# Altium schematic symbol library Controller-RK3562.SCHLIB: 538 symbols (part 4 of 5)
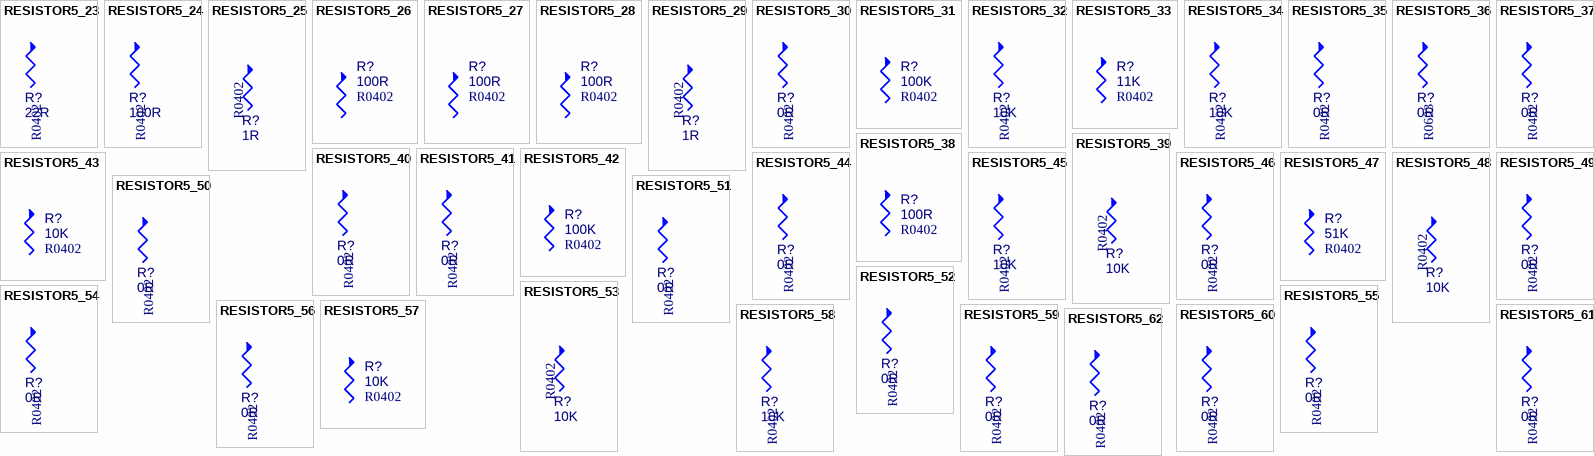
[diagram p23: symbols RESISTOR5_23 to RESISTOR5_62]

## RESISTOR5_42
designator R?, comment 100K  PCB Footprint: R0402
通用厚膜电阻,100K,+/-5%,R0402,1/16W.; Part Reference: R2220; Manufacturer PN: RC0402JR-07100KL; Manufacturer: YAGEO; Tolerance: 5%; Wattage: 1/16W; Priority: A; RK PN: 901001447; Value: 100K; Created by: YTL; Part Type: 通用厚膜电阻
footprint R0402
pins: 1, 2

## RESISTOR5_43
designator R?, comment 10K  PCB Footprint: R0402
通用厚膜电阻,10K,+/-5%,R0402,1/16W.; Part Reference: R2221; Manufacturer: YAGEO; Manufacturer PN: RC0402JR-0710KL; Tolerance: 5%; RK PN: 901001449; Priority: A; Wattage: 1/16W; Value: 10K; Part Type: 通用厚膜电阻; Created by: YTL
footprint R0402
pins: 1, 2

## RESISTOR5_44
designator R?, comment 0R  PCB Footprint: R0402
通用厚膜电阻,0R,+/-5%,R0402,1/16W.; Part Reference: R2222; Manufacturer: YAGEO; Manufacturer PN: RC0402JR-070RL; Tolerance: 5%; RK PN: 901001446; Priority: A; Wattage: 1/16W; Value: 0R; Part Type: 通用厚膜电阻; Created by: YTL
footprint R0402
pins: 1, 2

## RESISTOR5_45
designator R?, comment 10K  PCB Footprint: R0402
通用厚膜电阻,10K,+/-5%,R0402,1/16W.; Part Reference: R2224; Manufacturer: YAGEO; Manufacturer PN: RC0402JR-0710KL; Tolerance: 5%; RK PN: 901001449; Priority: A; Wattage: 1/16W; Value: 10K; Part Type: 通用厚膜电阻; Created by: YTL
footprint R0402
pins: 1, 2

## RESISTOR5_46
designator R?, comment 0R  PCB Footprint: R0402
通用厚膜电阻,0R,+/-5%,R0402,1/16W.; Part Reference: R2225; Manufacturer: YAGEO; Manufacturer PN: RC0402JR-070RL; Tolerance: 5%; RK PN: 901001446; Priority: A; Wattage: 1/16W; Value: 0R; Part Type: 通用厚膜电阻; Created by: YTL
footprint R0402
pins: 1, 2

## RESISTOR5_47
designator R?, comment 51K  PCB Footprint: R0402
通用厚膜电阻,51K,+/-5%,R0402,1/16W.; Part Reference: R2226; Manufacturer: YAGEO; Manufacturer PN: RC0402JR-0751KL; Tolerance: 5%; RK PN: 901001568; Priority: A; Wattage: 1/16W; Value: 51K; Part Type: 通用厚膜电阻; Created by: YTL
footprint R0402
pins: 1, 2

## RESISTOR5_48
designator R?, comment 10K  PCB Footprint: R0402
通用厚膜电阻,10K,+/-5%,R0402,1/16W.; Part Reference: R2228; Manufacturer PN: RC0402JR-0710KL; Manufacturer: YAGEO; Tolerance: 5%; Wattage: 1/16W; Priority: A; RK PN: 901001449; Value: 10K; Created by: YTL; Part Type: 通用厚膜电阻
footprint R0402
pins: 1, 2

## RESISTOR5_49
designator R?, comment 0R  PCB Footprint: R0402
通用厚膜电阻,0R,+/-5%,R0402,1/16W.; Part Reference: R2229; Manufacturer: YAGEO; Manufacturer PN: RC0402JR-070RL; Tolerance: 5%; RK PN: 901001446; Priority: A; Wattage: 1/16W; Value: 0R; Part Type: 通用厚膜电阻; Created by: YTL
footprint R0402
pins: 1, 2

## RESISTOR5_50
designator R?, comment 0R  PCB Footprint: R0402
通用厚膜电阻,0R,+/-5%,R0402,1/16W.; Part Reference: R2231; Manufacturer: YAGEO; Manufacturer PN: RC0402JR-070RL; Tolerance: 5%; RK PN: 901001446; Priority: A; Wattage: 1/16W; Value: 0R; Part Type: 通用厚膜电阻; Created by: YTL
footprint R0402
pins: 1, 2

## RESISTOR5_51
designator R?, comment 0R  PCB Footprint: R0402
通用厚膜电阻,0R,+/-5%,R0402,1/16W.; Part Reference: R2233; Manufacturer: YAGEO; Manufacturer PN: RC0402JR-070RL; Tolerance: 5%; RK PN: 901001446; Priority: A; Wattage: 1/16W; Value: 0R; Part Type: 通用厚膜电阻; Created by: YTL
footprint R0402
pins: 1, 2

## RESISTOR5_52
designator R?, comment 0R  PCB Footprint: R0402
通用厚膜电阻,0R,+/-5%,R0402,1/16W.; Part Reference: R2234; Manufacturer: YAGEO; Manufacturer PN: RC0402JR-070RL; Tolerance: 5%; RK PN: 901001446; Priority: A; Wattage: 1/16W; Value: 0R; Part Type: 通用厚膜电阻; Created by: YTL
footprint R0402
pins: 1, 2

## RESISTOR5_53
designator R?, comment 10K  PCB Footprint: R0402
通用厚膜电阻,10K,+/-5%,R0402,1/16W.; Part Reference: R2235; Manufacturer PN: RC0402JR-0710KL; Manufacturer: YAGEO; Tolerance: 5%; Wattage: 1/16W; Priority: A; RK PN: 901001449; Value: 10K; Created by: YTL; Part Type: 通用厚膜电阻
footprint R0402
pins: 1, 2

## RESISTOR5_54
designator R?, comment 0R  PCB Footprint: R0402
通用厚膜电阻,0R,+/-5%,R0402,1/16W.; Part Reference: R2236; Manufacturer: YAGEO; Manufacturer PN: RC0402JR-070RL; Tolerance: 5%; RK PN: 901001446; Priority: A; Wattage: 1/16W; Value: 0R; Part Type: 通用厚膜电阻; Created by: YTL
footprint R0402
pins: 1, 2

## RESISTOR5_55
designator R?, comment 0R  PCB Footprint: R0402
通用厚膜电阻,0R,+/-5%,R0402,1/16W.; Part Reference: R2250; Manufacturer: YAGEO; Manufacturer PN: RC0402JR-070RL; Tolerance: 5%; RK PN: 901001446; Priority: A; Wattage: 1/16W; Value: 0R; Part Type: 通用厚膜电阻; Created by: YTL
footprint R0402
pins: 1, 2

## RESISTOR5_56
designator R?, comment 0R  PCB Footprint: R0402
通用厚膜电阻,0R,+/-5%,R0402,1/16W.; Part Reference: R2237; Manufacturer: YAGEO; Manufacturer PN: RC0402JR-070RL; Tolerance: 5%; RK PN: 901001446; Priority: A; Wattage: 1/16W; Value: 0R; Part Type: 通用厚膜电阻; Created by: YTL
footprint R0402
pins: 1, 2

## RESISTOR5_57
designator R?, comment 10K  PCB Footprint: R0402
通用厚膜电阻,10K,+/-5%,R0402,1/16W.; Part Reference: R2238; Manufacturer: YAGEO; Manufacturer PN: RC0402JR-0710KL; Tolerance: 5%; RK PN: 901001449; Priority: A; Wattage: 1/16W; Value: 10K; Part Type: 通用厚膜电阻; Created by: YTL
footprint R0402
pins: 1, 2

## RESISTOR5_58
designator R?, comment 10K  PCB Footprint: R0402
通用厚膜电阻,10K,+/-5%,R0402,1/16W.; Part Reference: R2239; Manufacturer: YAGEO; Manufacturer PN: RC0402JR-0710KL; Tolerance: 5%; RK PN: 901001449; Priority: A; Wattage: 1/16W; Value: 10K; Part Type: 通用厚膜电阻; Created by: YTL
footprint R0402
pins: 1, 2

## RESISTOR5_59
designator R?, comment 0R  PCB Footprint: R0402
通用厚膜电阻,0R,+/-5%,R0402,1/16W.; Part Reference: R2240; Manufacturer: YAGEO; Manufacturer PN: RC0402JR-070RL; Tolerance: 5%; RK PN: 901001446; Priority: A; Wattage: 1/16W; Value: 0R; Part Type: 通用厚膜电阻; Created by: YTL
footprint R0402
pins: 1, 2

## RESISTOR5_60
designator R?, comment 0R  PCB Footprint: R0402
通用厚膜电阻,0R,+/-5%,R0402,1/16W.; Part Reference: R2242; Manufacturer: YAGEO; Manufacturer PN: RC0402JR-070RL; Tolerance: 5%; RK PN: 901001446; Priority: A; Wattage: 1/16W; Value: 0R; Part Type: 通用厚膜电阻; Created by: YTL
footprint R0402
pins: 1, 2

## RESISTOR5_61
designator R?, comment 0R  PCB Footprint: R0402
通用厚膜电阻,0R,+/-5%,R0402,1/16W.; Part Reference: R2243; Manufacturer: YAGEO; Manufacturer PN: RC0402JR-070RL; Tolerance: 5%; RK PN: 901001446; Priority: A; Wattage: 1/16W; Value: 0R; Part Type: 通用厚膜电阻; Created by: YTL
footprint R0402
pins: 1, 2

## RESISTOR5_62
designator R?, comment 0R  PCB Footprint: R0402
通用厚膜电阻,0R,+/-5%,R0402,1/16W.; Part Reference: R2244; Manufacturer: YAGEO; Manufacturer PN: RC0402JR-070RL; Tolerance: 5%; RK PN: 901001446; Priority: A; Wattage: 1/16W; Value: 0R; Part Type: 通用厚膜电阻; Created by: YTL
footprint R0402
pins: 1, 2

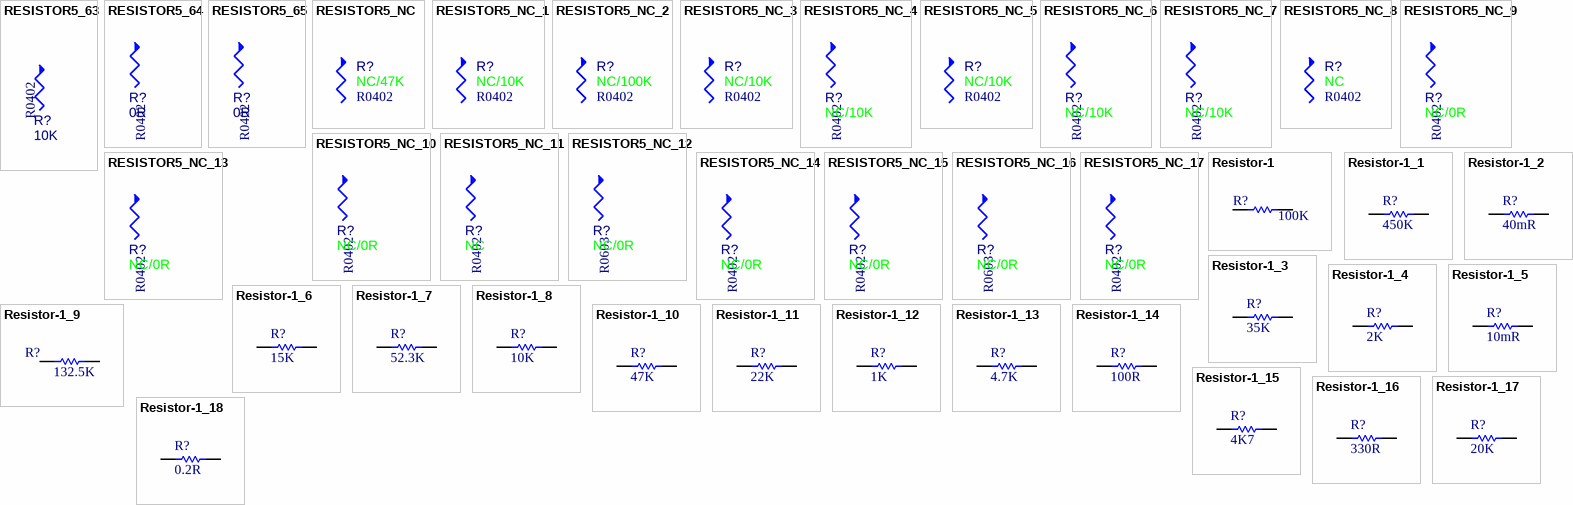
[diagram p13: symbols RESISTOR5_63 to Resistor-1_18]

## RESISTOR5_63
designator R?, comment 10K  PCB Footprint: R0402
通用厚膜电阻,10K,+/-5%,R0402,1/16W.; Part Reference: R2245; Manufacturer PN: RC0402JR-0710KL; Manufacturer: YAGEO; Tolerance: 5%; Wattage: 1/16W; Priority: A; RK PN: 901001449; Value: 10K; Created by: YTL; Part Type: 通用厚膜电阻
footprint R0402
pins: 1, 2

## RESISTOR5_64
designator R?, comment 0R  PCB Footprint: R0402
通用厚膜电阻,0R,+/-5%,R0402,1/16W.; Part Reference: R2246; Manufacturer: YAGEO; Manufacturer PN: RC0402JR-070RL; Tolerance: 5%; RK PN: 901001446; Priority: A; Wattage: 1/16W; Value: 0R; Part Type: 通用厚膜电阻; Created by: YTL
footprint R0402
pins: 1, 2

## RESISTOR5_65
designator R?, comment 0R  PCB Footprint: R0402
通用厚膜电阻,0R,+/-5%,R0402,1/16W.; Part Reference: R2247; Manufacturer: YAGEO; Manufacturer PN: RC0402JR-070RL; Tolerance: 5%; RK PN: 901001446; Priority: A; Wattage: 1/16W; Value: 0R; Part Type: 通用厚膜电阻; Created by: YTL
footprint R0402
pins: 1, 2

## RESISTOR5_NC
designator R?, comment NC/47K  PCB Footprint: R0402
通用厚膜电阻,47K,+/-5%,R0402,1/16W.; Part Reference: R4004; Manufacturer: YAGEO; Manufacturer PN: RC0402JR-0747KL; Tolerance: 5%; RK PN: 901001559-1; Priority: A; Wattage: 1/16W; Optional: X; Value: NC/47K; Part Type: 通用厚膜电阻; Created by: YTL; ClassName: RK
footprint R0402
pins: 1, 2

## RESISTOR5_NC_1
designator R?, comment NC/10K  PCB Footprint: R0402
通用厚膜电阻,10K,+/-5%,R0402,1/16W.; Part Reference: R4500; Manufacturer: YAGEO; Manufacturer PN: RC0402JR-0710KL; Tolerance: 5%; RK PN: 901001449-1; Priority: A; Wattage: 1/16W; Optional: X; Value: NC/10K; Part Type: 通用厚膜电阻; Created by: YTL
footprint R0402
pins: 1, 2

## RESISTOR5_NC_2
designator R?, comment NC/100K  PCB Footprint: R0402
通用厚膜电阻,100K,+/-5%,R0402,1/16W.; Part Reference: R6101; Manufacturer: YAGEO; Manufacturer PN: RC0402JR-07100KL; Tolerance: 5%; RK PN: 901001447-1; Priority: A; Wattage: 1/16W; Optional: X; Value: NC/100K; Part Type: 通用厚膜电阻; Created by: YTL
footprint R0402
pins: 1, 2

## RESISTOR5_NC_3
designator R?, comment NC/10K  PCB Footprint: R0402
通用厚膜电阻,10K,+/-5%,R0402,1/16W.; Part Reference: R6102; Manufacturer PN: RC0402JR-0710KL; Manufacturer: YAGEO; Tolerance: 5%; Optional: X; Wattage: 1/16W; Priority: A; RK PN: 901001449-1; Value: NC/10K; Created by: YTL; Part Type: 通用厚膜电阻
footprint R0402
pins: 1, 2

## RESISTOR5_NC_4
designator R?, comment NC/10K  PCB Footprint: R0402
通用厚膜电阻,10K,+/-5%,R0402,1/16W.; Part Reference: R6104; Manufacturer: YAGEO; Manufacturer PN: RC0402JR-0710KL; Tolerance: 5%; RK PN: 901001449-1; Priority: A; Wattage: 1/16W; Optional: X; Value: NC/10K; Part Type: 通用厚膜电阻; Created by: YTL
footprint R0402
pins: 1, 2

## RESISTOR5_NC_5
designator R?, comment NC/10K  PCB Footprint: R0402
通用厚膜电阻,10K,+/-5%,R0402,1/16W.; Part Reference: R6105; Manufacturer PN: RC0402JR-0710KL; Manufacturer: YAGEO; Tolerance: 5%; Optional: X; Wattage: 1/16W; Priority: A; RK PN: 901001449-1; Value: NC/10K; Created by: YTL; Part Type: 通用厚膜电阻
footprint R0402
pins: 1, 2

## RESISTOR5_NC_6
designator R?, comment NC/10K  PCB Footprint: R0402
通用厚膜电阻,10K,+/-5%,R0402,1/16W.; Part Reference: R6106; Manufacturer: YAGEO; Manufacturer PN: RC0402JR-0710KL; Tolerance: 5%; RK PN: 901001449-1; Priority: A; Wattage: 1/16W; Optional: X; Value: NC/10K; Part Type: 通用厚膜电阻; Created by: YTL
footprint R0402
pins: 1, 2

## RESISTOR5_NC_7
designator R?, comment NC/10K  PCB Footprint: R0402
通用厚膜电阻,10K,+/-5%,R0402,1/16W.; Part Reference: R6111; Manufacturer: YAGEO; Manufacturer PN: RC0402JR-0710KL; Tolerance: 5%; RK PN: 901001449-1; Priority: A; Wattage: 1/16W; Optional: X; Value: NC/10K; Part Type: 通用厚膜电阻; Created by: YTL
footprint R0402
pins: 1, 2

## RESISTOR5_NC_8
designator R?, comment NC  PCB Footprint: R0402
NC电阻，无阻值.; Part Reference: R6116; Optional: X; Priority: A; RK PN: 901006427-1; Value: NC; Created by: JJJ; Part Type: NC电阻
footprint R0402
pins: 1, 2

## RESISTOR5_NC_9
designator R?, comment NC/0R  PCB Footprint: R0402
通用厚膜电阻,0R,+/-5%,R0402,1/16W.; Part Reference: R6115; Manufacturer PN: RC0402JR-070RL; Manufacturer: YAGEO; Tolerance: 5%; Optional: X; Wattage: 1/16W; Priority: A; RK PN: 901001446-1; Value: NC/0R; Created by: YTL; Part Type: 通用厚膜电阻
footprint R0402
pins: 1, 2

## RESISTOR5_NC_10
designator R?, comment NC/0R  PCB Footprint: R0402
通用厚膜电阻,0R,+/-5%,R0402,1/16W.; Part Reference: R6120; Manufacturer: YAGEO; Manufacturer PN: RC0402JR-070RL; Tolerance: 5%; RK PN: 901001446-1; Priority: A; Wattage: 1/16W; Optional: X; Value: NC/0R; Part Type: 通用厚膜电阻; Created by: YTL
footprint R0402
pins: 1, 2

## RESISTOR5_NC_11
designator R?, comment NC  PCB Footprint: R0402
NC电阻，无阻值.; Part Reference: R2108; RK PN: 901006427-1; Priority: A; Optional: X; Value: NC; Part Type: NC电阻; Created by: JJJ
footprint R0402
pins: 1, 2

## RESISTOR5_NC_12
designator R?, comment NC/0R  PCB Footprint: R0603
通用厚膜电阻,0R,+/-5%,R0603,1/10W.; Part Reference: R2200; Manufacturer: YAGEO; Manufacturer PN: RC0603JR-070RL; Tolerance: 5%; RK PN: 901002435-1; Priority: A; Wattage: 1/10W; Optional: X; Value: NC/0R; Part Type: 通用厚膜电阻; Created by: YTL
footprint R0402
footprint R0603
pins: 1, 2

## RESISTOR5_NC_13
designator R?, comment NC/0R  PCB Footprint: R0402
通用厚膜电阻,0R,+/-5%,R0402,1/16W.; Part Reference: R2202; Manufacturer PN: RC0402JR-070RL; Manufacturer: YAGEO; Tolerance: 5%; Optional: X; Wattage: 1/16W; Priority: A; RK PN: 901001446-1; Value: NC/0R; Created by: YTL; Part Type: 通用厚膜电阻
footprint R0402
pins: 1, 2

## RESISTOR5_NC_14
designator R?, comment NC/0R  PCB Footprint: R0402
通用厚膜电阻,0R,+/-5%,R0402,1/16W.; Part Reference: R2203; Manufacturer PN: RC0402JR-070RL; Manufacturer: YAGEO; Tolerance: 5%; Optional: X; Wattage: 1/16W; Priority: A; RK PN: 901001446-1; Value: NC/0R; Created by: YTL; Part Type: 通用厚膜电阻
footprint R0402
pins: 1, 2

## RESISTOR5_NC_15
designator R?, comment NC/0R  PCB Footprint: R0402
通用厚膜电阻,0R,+/-5%,R0402,1/16W.; Part Reference: R2218; Manufacturer PN: RC0402JR-070RL; Manufacturer: YAGEO; Tolerance: 5%; Optional: X; Wattage: 1/16W; Priority: A; RK PN: 901001446-1; Value: NC/0R; Created by: YTL; Part Type: 通用厚膜电阻
footprint R0402
pins: 1, 2

## RESISTOR5_NC_16
designator R?, comment NC/0R  PCB Footprint: R0603
通用厚膜电阻,0R,+/-5%,R0603,1/10W.; Part Reference: R2219; Manufacturer: YAGEO; Manufacturer PN: RC0603JR-070RL; Tolerance: 5%; RK PN: 901002435-1; Priority: A; Wattage: 1/10W; Optional: X; Value: NC/0R; Part Type: 通用厚膜电阻; Created by: YTL
footprint R0402
footprint R0603
pins: 1, 2

## RESISTOR5_NC_17
designator R?, comment NC/0R  PCB Footprint: R0402
通用厚膜电阻,0R,+/-5%,R0402,1/16W.; Part Reference: R2223; Manufacturer PN: RC0402JR-070RL; Manufacturer: YAGEO; Tolerance: 5%; Optional: X; Wattage: 1/16W; Priority: A; RK PN: 901001446-1; Value: NC/0R; Created by: YTL; Part Type: 通用厚膜电阻
footprint R0402
pins: 1, 2

## Resistor-1
designator R?, comment 100K
ManufacturingPartNumber: *; Manufacturer: *; SupplierPartNumber: *; Supplier: *; VoltageRate: *
footprint RES-0402
footprint RES-0603
footprint RES-0805-S
pins: 1, 2

## Resistor-1_1
designator R?, comment 450K
ManufacturingPartNumber: *; Manufacturer: *; SupplierPartNumber: *; Supplier: *; VoltageRate: *
footprint RES-0402
footprint RES-0603
footprint RES-0805-S
pins: 1, 2

## Resistor-1_2
designator R?, comment 40mR
ManufacturingPartNumber: *; Manufacturer: *; SupplierPartNumber: *; Supplier: *; VoltageRate: *
footprint R1210
footprint RES-0603
footprint RES-0805-S
pins: 1, 2

## Resistor-1_3
designator R?, comment 35K
ManufacturingPartNumber: *; Manufacturer: *; SupplierPartNumber: *; Supplier: *; VoltageRate: *
footprint RES-0402
footprint RES-0603
footprint RES-0805-S
pins: 1, 2

## Resistor-1_4
designator R?, comment 2K
ManufacturingPartNumber: *; Manufacturer: *; SupplierPartNumber: *; Supplier: *; VoltageRate: *
footprint RES-0402
footprint RES-0603
footprint RES-0805-S
pins: 1, 2

## Resistor-1_5
designator R?, comment 10mR
ManufacturingPartNumber: *; Manufacturer: *; SupplierPartNumber: *; Supplier: *; VoltageRate: *
footprint RES-1206
footprint RES-0603
footprint RES-0805-S
pins: 1, 2

## Resistor-1_6
designator R?, comment 15K
ManufacturingPartNumber: *; Manufacturer: *; SupplierPartNumber: *; Supplier: *; VoltageRate: *
footprint RES-0402
footprint RES-0603
footprint RES-0805-S
pins: 1, 2

## Resistor-1_7
designator R?, comment 52.3K
ManufacturingPartNumber: *; Manufacturer: *; SupplierPartNumber: *; Supplier: *; VoltageRate: *
footprint RES-0402
footprint RES-0603
footprint RES-0805-S
pins: 1, 2

## Resistor-1_8
designator R?, comment 10K
ManufacturingPartNumber: *; Manufacturer: *; SupplierPartNumber: *; Supplier: *; VoltageRate: *
footprint RES-0402
footprint RES-0603
footprint RES-0805-S
pins: 1, 2

## Resistor-1_9
designator R?, comment 132.5K
ManufacturingPartNumber: *; Manufacturer: *; SupplierPartNumber: *; Supplier: *; VoltageRate: *
footprint RES-0402
footprint RES-0603
footprint RES-0805-S
pins: 1, 2

## Resistor-1_10
designator R?, comment 47K
ManufacturingPartNumber: *; Manufacturer: *; SupplierPartNumber: *; Supplier: *; VoltageRate: *
footprint RES-0402
footprint RES-0603
footprint RES-0805-S
pins: 1, 2

## Resistor-1_11
designator R?, comment 22K
ManufacturingPartNumber: *; Manufacturer: *; SupplierPartNumber: *; Supplier: *; VoltageRate: *
footprint RES-0402
footprint RES-0603
footprint RES-0805-S
pins: 1, 2

## Resistor-1_12
designator R?, comment 1K
ManufacturingPartNumber: *; Manufacturer: *; SupplierPartNumber: *; Supplier: *; VoltageRate: *
footprint RES-0402
footprint RES-0603
footprint RES-0805-S
pins: 1, 2

## Resistor-1_13
designator R?, comment 4.7K
ManufacturingPartNumber: *; Manufacturer: *; SupplierPartNumber: *; Supplier: *; VoltageRate: *
footprint RES-0402
footprint RES-0603
footprint RES-0805-S
pins: 1, 2

## Resistor-1_14
designator R?, comment 100R
ManufacturingPartNumber: *; Manufacturer: *; SupplierPartNumber: *; Supplier: *; VoltageRate: *
footprint RES-0402
footprint RES-0603
footprint RES-0805-S
pins: 1, 2

## Resistor-1_15
designator R?, comment 4K7
ManufacturingPartNumber: *; Manufacturer: *; SupplierPartNumber: *; Supplier: *; VoltageRate: *
footprint RES-0402
footprint RES-0603
footprint RES-0805-S
pins: 1, 2

## Resistor-1_16
designator R?, comment 330R
ManufacturingPartNumber: *; Manufacturer: *; SupplierPartNumber: *; Supplier: *; VoltageRate: *
footprint RES-0402
footprint RES-0603
footprint RES-0805-S
pins: 1, 2

## Resistor-1_17
designator R?, comment 20K
ManufacturingPartNumber: *; Manufacturer: *; SupplierPartNumber: *; Supplier: *; VoltageRate: *
footprint RES-0402
footprint RES-0603
footprint RES-0805-S
pins: 1, 2

## Resistor-1_18
designator R?, comment 0.2R
ManufacturingPartNumber: *; Manufacturer: *; SupplierPartNumber: *; Supplier: *; VoltageRate: *
footprint RES-0402
footprint RES-0603
footprint RES-0805-S
pins: 1, 2

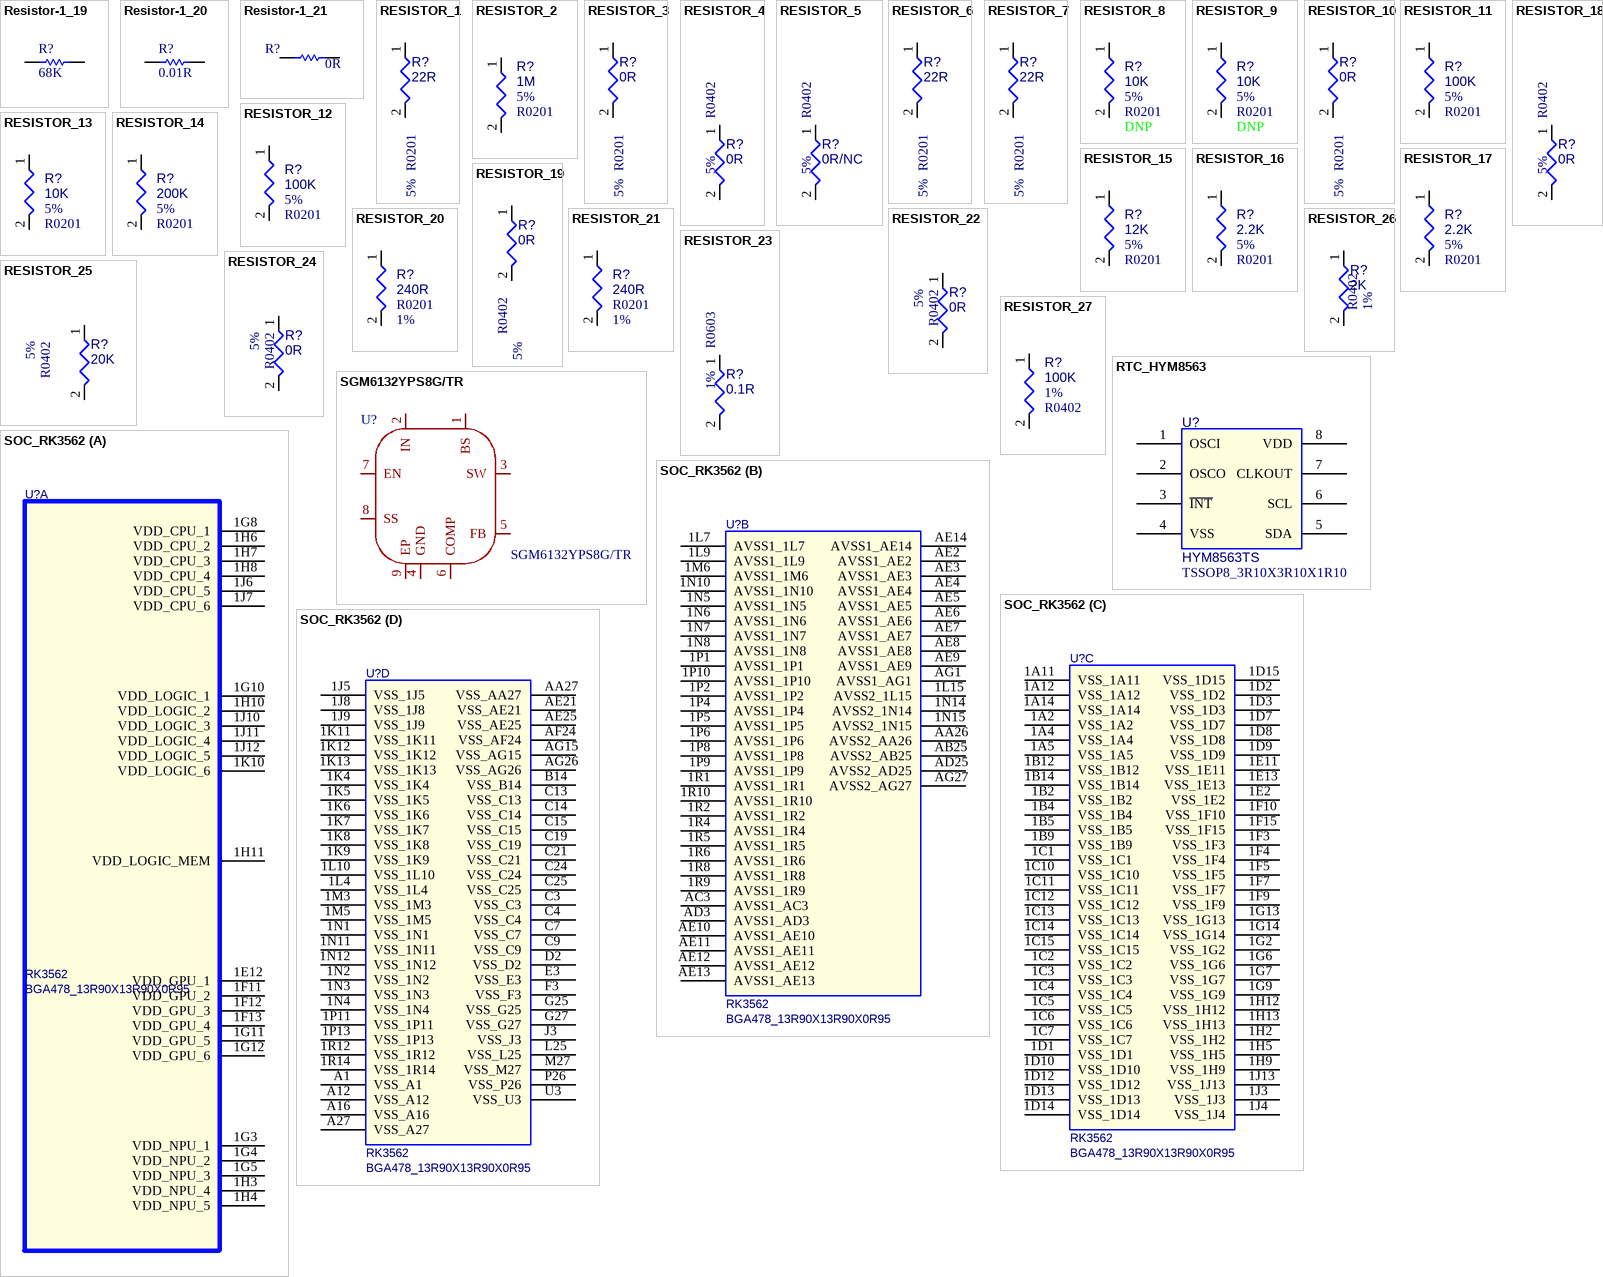
[diagram p14: symbols Resistor-1_19 to SOC_RK3562]

## Resistor-1_19
designator R?, comment 68K
ManufacturingPartNumber: *; Manufacturer: *; SupplierPartNumber: *; Supplier: *; VoltageRate: *
footprint RES-0402
footprint RES-0603
footprint RES-0805-S
pins: 1, 2

## Resistor-1_20
designator R?, comment 0.01R
ManufacturingPartNumber: *; Manufacturer: *; SupplierPartNumber: *; Supplier: *; VoltageRate: *
footprint RES-0402
footprint RES-0603
footprint RES-0805-S
pins: 1, 2

## Resistor-1_21
designator R?, comment 0R
ManufacturingPartNumber: *; Manufacturer: *; SupplierPartNumber: *; Supplier: *; VoltageRate: *
footprint RES-0402
footprint RES-0603
footprint RES-0805-S
pins: 1, 2

## RESISTOR_1
designator R?, comment 22R  Tolerance: 5%  PCB Footprint: R0201
通用厚膜电阻,22R,+/-5%,R0201,1/20W.; Part Reference: R1200; Manufacturer PN: RC0201JR-0722RL; Manufacturer: YAGEO; Wattage: 1/20W; Priority: A; RK PN: 901000523; Value: 22R; Created by: YTL; Part Type: 通用厚膜电阻; ClassName: RK
footprint R0402
footprint R0201
pins: 1, 2

## RESISTOR_2
designator R?, comment 1M  Tolerance: 5%  PCB Footprint: R0201
通用厚膜电阻,1M,+/-5%,R0201,1/20W.; Part Reference: R1201; Manufacturer PN: RC0201JR-071ML; Manufacturer: YAGEO; Wattage: 1/20W; Priority: A; RK PN: 901000512; Value: 1M; Created by: YTL; Part Type: 通用厚膜电阻; ClassName: RK
footprint R0402
footprint R0201
pins: 1, 2

## RESISTOR_3
designator R?, comment 0R  Tolerance: 5%  PCB Footprint: R0201
通用厚膜电阻,0R,+/-5%,R0201,1/20W.; Part Reference: R1202; Manufacturer PN: RC0201JR-070RL; Manufacturer: YAGEO; Wattage: 1/20W; Priority: A; RK PN: 901000473; Value: 0R; Created by: YTL; Part Type: 通用厚膜电阻; ClassName: RK
footprint R0402
footprint R0201
pins: 1, 2

## RESISTOR_4
designator R?, comment 0R  Tolerance: 5%  PCB Footprint: R0402
通用厚膜电阻,0R,+/-5%,R0402,1/16W.; Part Reference: R1604; Manufacturer PN: RC0402JR-070RL; Manufacturer: YAGEO; Wattage: 1/16W; Priority: A; RK PN: 901001446; Value: 0R; Created by: YTL; Part Type: 通用厚膜电阻; ClassName: RK
footprint R0402
pins: 1, 2

## RESISTOR_5
designator R?, comment 0R/NC  Tolerance: 5%  PCB Footprint: R0402
通用厚膜电阻,0R,+/-5%,R0402,1/16W.; Part Reference: R1604; Manufacturer PN: RC0402JR-070RL; Manufacturer: YAGEO; Wattage: 1/16W; Priority: A; RK PN: 901001446; Value: 0R; Created by: YTL; Part Type: 通用厚膜电阻; ClassName: RK
footprint R0402
pins: 1, 2

## RESISTOR_6
designator R?, comment 22R  Tolerance: 5%  PCB Footprint: R0201
通用厚膜电阻,22R,+/-5%,R0201,1/20W.; Part Reference: R1429; Manufacturer PN: RC0201JR-0722RL; Manufacturer: YAGEO; Wattage: 1/20W; Priority: A; RK PN: 901000523; Value: 22R; Created by: YTL; Part Type: 通用厚膜电阻; ClassName: RK
footprint R0402
footprint R0201
pins: 1, 2

## RESISTOR_7
designator R?, comment 22R  Tolerance: 5%  PCB Footprint: R0201
通用厚膜电阻,22R,+/-5%,R0201,1/20W.; Part Reference: R1436; Manufacturer PN: RC0201JR-0722RL; Manufacturer: YAGEO; Wattage: 1/20W; Priority: A; RK PN: 901000523; Value: 22R; Created by: YTL; Part Type: 通用厚膜电阻; ClassName: RK
footprint R0402
footprint R0201
pins: 1, 2

## RESISTOR_8
designator R?, comment 10K  Tolerance: 5%  PCB Footprint: R0201  option: DNP
通用厚膜电阻,10K,+/-5%,R0201,1/20W.; Part Reference: R1447; Manufacturer PN: RC0201JR-0710KL; Manufacturer: YAGEO; Wattage: 1/20W; Priority: A; RK PN: 901000476; Value: 10K; Created by: YTL; Part Type: 通用厚膜电阻; ClassName: RK
footprint R0402
footprint R0201
pins: 1, 2

## RESISTOR_9
designator R?, comment 10K  Tolerance: 5%  PCB Footprint: R0201  option: DNP
通用厚膜电阻,10K,+/-5%,R0201,1/20W.; Part Reference: R1448; Manufacturer PN: RC0201JR-0710KL; Manufacturer: YAGEO; Wattage: 1/20W; Priority: A; RK PN: 901000476; Value: 10K; Created by: YTL; Part Type: 通用厚膜电阻; ClassName: RK
footprint R0402
footprint R0201
pins: 1, 2

## RESISTOR_10
designator R?, comment 0R  Tolerance: 5%  PCB Footprint: R0201
通用厚膜电阻,0R,+/-5%,R0201,1/20W.; Part Reference: R1525; Manufacturer: YAGEO; Manufacturer PN: RC0201JR-070RL; RK PN: 901000473; Priority: A; Wattage: 1/20W; Value: 0R; Part Type: 通用厚膜电阻; Created by: YTL; ClassName: RK
footprint R0402
footprint R0201
pins: 1, 2

## RESISTOR_11
designator R?, comment 100K  Tolerance: 5%  PCB Footprint: R0201
通用厚膜电阻,100K,+/-5%,R0201,1/20W.; Part Reference: R1503; Manufacturer: YAGEO; Manufacturer PN: RC0201JR-07100KL; RK PN: 901000474; Priority: A; Wattage: 1/20W; Value: 100K; Part Type: 通用厚膜电阻; Created by: YTL; ClassName: RK
footprint R0402
footprint R0201
pins: 1, 2

## RESISTOR_12
designator R?, comment 100K  Tolerance: 5%  PCB Footprint: R0201
通用厚膜电阻,100K,+/-5%,R0201,1/20W.; Part Reference: R1505; Manufacturer PN: RC0201JR-07100KL; Manufacturer: YAGEO; Wattage: 1/20W; Priority: A; RK PN: 901000474; Value: 100K; Created by: YTL; Part Type: 通用厚膜电阻; ClassName: RK
footprint R0402
footprint R0201
pins: 1, 2

## RESISTOR_13
designator R?, comment 10K  Tolerance: 5%  PCB Footprint: R0201
通用厚膜电阻,10K,+/-5%,R0201,1/20W.; Part Reference: R1507; Manufacturer PN: RC0201JR-0710KL; Manufacturer: YAGEO; Wattage: 1/20W; Priority: A; RK PN: 901000476; Value: 10K; Created by: YTL; Part Type: 通用厚膜电阻; ClassName: RK
footprint R0402
footprint R0201
pins: 1, 2

## RESISTOR_14
designator R?, comment 200K  Tolerance: 5%  PCB Footprint: R0201
通用厚膜电阻,200K,+/-5%,R0201,1/20W.; Part Reference: R1504; Manufacturer: YAGEO; Manufacturer PN: RC0201JR-07200KL; RK PN: 901000516; Priority: A; Wattage: 1/20W; Value: 200K; Part Type: 通用厚膜电阻; Created by: YTL; ClassName: RK
footprint R0402
footprint R0201
pins: 1, 2

## RESISTOR_15
designator R?, comment 12K  Tolerance: 5%  PCB Footprint: R0201
通用厚膜电阻,12K,+/-5%,R0201,1/20W.; Part Reference: R1506; Manufacturer: YAGEO; Manufacturer PN: RC0201JR-0712KL; RK PN: 901000485; Priority: A; Wattage: 1/20W; Value: 12K; Part Type: 通用厚膜电阻; Created by: YTL; ClassName: RK
footprint R0402
footprint R0201
pins: 1, 2

## RESISTOR_16
designator R?, comment 2.2K  Tolerance: 5%  PCB Footprint: R0201
通用厚膜电阻,2K2,+/-5%,R0201,1/20W.; Part Reference: R1607; Manufacturer: YAGEO; Manufacturer PN: RC0201JR-072K2L; RK PN: 901000532; Priority: A; Wattage: 1/20W; Value: 2.2K; Part Type: 通用厚膜电阻; Created by: YTL; ClassName: RK
footprint R0402
footprint R0201
pins: 1, 2

## RESISTOR_17
designator R?, comment 2.2K  Tolerance: 5%  PCB Footprint: R0201
通用厚膜电阻,2K2,+/-5%,R0201,1/20W.; Part Reference: R1608; Manufacturer PN: RC0201JR-072K2L; Manufacturer: YAGEO; Wattage: 1/20W; Priority: A; RK PN: 901000532; Value: 2.2K; Created by: YTL; Part Type: 通用厚膜电阻; ClassName: RK
footprint R0402
footprint R0201
pins: 1, 2

## RESISTOR_18
designator R?, comment 0R  Tolerance: 5%  PCB Footprint: R0402
通用厚膜电阻,0R,+/-5%,R0402,1/16W.; Part Reference: R1702; Manufacturer: YAGEO; Manufacturer PN: RC0402JR-070RL; RK PN: 901001446; Priority: A; Wattage: 1/16W; Value: 0R; Part Type: 通用厚膜电阻; Created by: YTL; ClassName: RK
footprint R0402
pins: 1, 2

## RESISTOR_19
designator R?, comment 0R  Tolerance: 5%  PCB Footprint: R0402
通用厚膜电阻,0R,+/-5%,R0402,1/16W.; Part Reference: R1802; Manufacturer PN: RC0402JR-070RL; Manufacturer: YAGEO; Wattage: 1/16W; Priority: A; RK PN: 901001446; Value: 0R; Created by: YTL; Part Type: 通用厚膜电阻; ClassName: RK
footprint R0402
pins: 1, 2

## RESISTOR_20
designator R?, comment 240R  Tolerance: 1%  PCB Footprint: R0201
通用厚膜电阻,240R,+/-1%,R0201,1/20W.; Part Reference: R3001; Manufacturer: YAGEO; Manufacturer PN: RC0201FR-07240RL; RK PN: 901000174; Priority: A; Wattage: 1/20W; Value: 240R; Part Type: 通用厚膜电阻; Created by: YTL; ClassName: RK
footprint R0402
footprint R0201
pins: 1, 2

## RESISTOR_21
designator R?, comment 240R  Tolerance: 1%  PCB Footprint: R0201
通用厚膜电阻,240R,+/-1%,R0201,1/20W.; Part Reference: R3002; Manufacturer PN: RC0201FR-07240RL; Manufacturer: YAGEO; Wattage: 1/20W; Priority: A; RK PN: 901000174; Value: 240R; Created by: YTL; Part Type: 通用厚膜电阻; ClassName: RK
footprint R0402
footprint R0201
pins: 1, 2

## RESISTOR_22
designator R?, comment 0R  Tolerance: 5%  PCB Footprint: R0402
通用厚膜电阻,0R,+/-5%,R0402,1/16W.; Part Reference: R3013; Manufacturer: YAGEO; RK PN: RC0402JR-070RL; Priority: A; Wattage: 1/16W; Value: 0R; Part Type: 通用厚膜电阻; Manufacturer PN: RC0402JR-070RL; Created by: YTL; ClassName: RK
footprint R0402
pins: 1, 2

## RESISTOR_23
designator R?, comment 0.1R  Tolerance: 1%  PCB Footprint: R0603
厚膜低阻值电阻,0R1,+/-1%,R0603,1/10W.; Part Reference: R3015; Manufacturer: YAGEO; RK PN: RL0603FR-070R1L; Priority: A; Wattage: 1/10W; Value: 0.1R; Part Type: 厚膜低阻值电阻; Manufacturer PN: RL0603FR-070R1L; Created by: YTL; ClassName: RK
footprint R0402
footprint R0603
pins: 1, 2

## RESISTOR_24
designator R?, comment 0R  Tolerance: 5%  PCB Footprint: R0402
通用厚膜电阻,0R,+/-5%,R0402,1/16W.; Part Reference: R3014; Manufacturer PN: RC0402JR-070RL; Manufacturer: YAGEO; Wattage: 1/16W; Priority: A; Value: 0R; Created by: YTL; Part Type: 通用厚膜电阻; RK PN: RC0402JR-070RL; ClassName: RK
footprint R0402
pins: 1, 2

## RESISTOR_25
designator R?, comment 20K  Tolerance: 5%  PCB Footprint: R0402
通用厚膜电阻,20K,+/-5%,R0402,1/16W.; Part Reference: R3010; Manufacturer PN: RC0402JR-0720KL; Manufacturer: YAGEO; Wattage: 1/16W; Priority: A; Value: 20K; Created by: YTL; Part Type: 通用厚膜电阻; RK PN: RC0402JR-0720KL; ClassName: RK
footprint R0402
pins: 1, 2

## RESISTOR_26
designator R?, comment 2K  Tolerance: 1%  PCB Footprint: R0402
通用厚膜电阻,2K,+/-1%,R0402,1/16W.; Part Reference: R3011; Manufacturer: YAGEO; RK PN: RC0402FR-072KL; Priority: A; Wattage: 1/16W; Value: 2K; Part Type: 通用厚膜电阻; Manufacturer PN: RC0402FR-072KL; Created by: YTL; ClassName: RK
footprint R0402
pins: 1, 2

## RESISTOR_27
designator R?, comment 100K  Tolerance: 1%  PCB Footprint: R0402
通用厚膜电阻,100K,+/-1%,R0402,1/16W.; Part Reference: R3012; Manufacturer: YAGEO; RK PN: RC0402FR-07100KL; Priority: A; Wattage: 1/16W; Value: 100K; Part Type: 通用厚膜电阻; Manufacturer PN: RC0402FR-07100KL; Created by: YTL; ClassName: RK
footprint R0402
pins: 1, 2

## RTC_HYM8563
designator U?, comment HYM8563TS  PCB Footprint: TSSOP8_3R10X3R10X1R10
I2C Real Time Clock/Calendar; Part Reference: U2203; Manufacturer: Haoyu（昊昱微电子）; Priority: A; Value: HYM8563TS; Created by: JJJ; Manufacturer PN: HYM8563TS; Part Type: RTC; RK PN: HYM8563TS
footprint TSSOP8_3R10X3R10X1R10
pins: 1 OSCI, 2 OSCO, 3 ~{INT}, 4 VSS, 5 SDA, 6 SCL, 7 CLKOUT, 8 VDD

## SGM6132YPS8G/TR
designator U?
ManufacturingPartNumber: *; Manufacturer: *; SupplierPartNumber: *; Supplier: *; VoltageRate: *
footprint SOIC-8_L4.9-W3.9-P1.27-LS6.0-BL-EP3.4
pins: 1 BS, 2 IN, 3 SW, 4 GND, 5 FB, 6 COMP, 7 EN, 8 SS, 9 EP

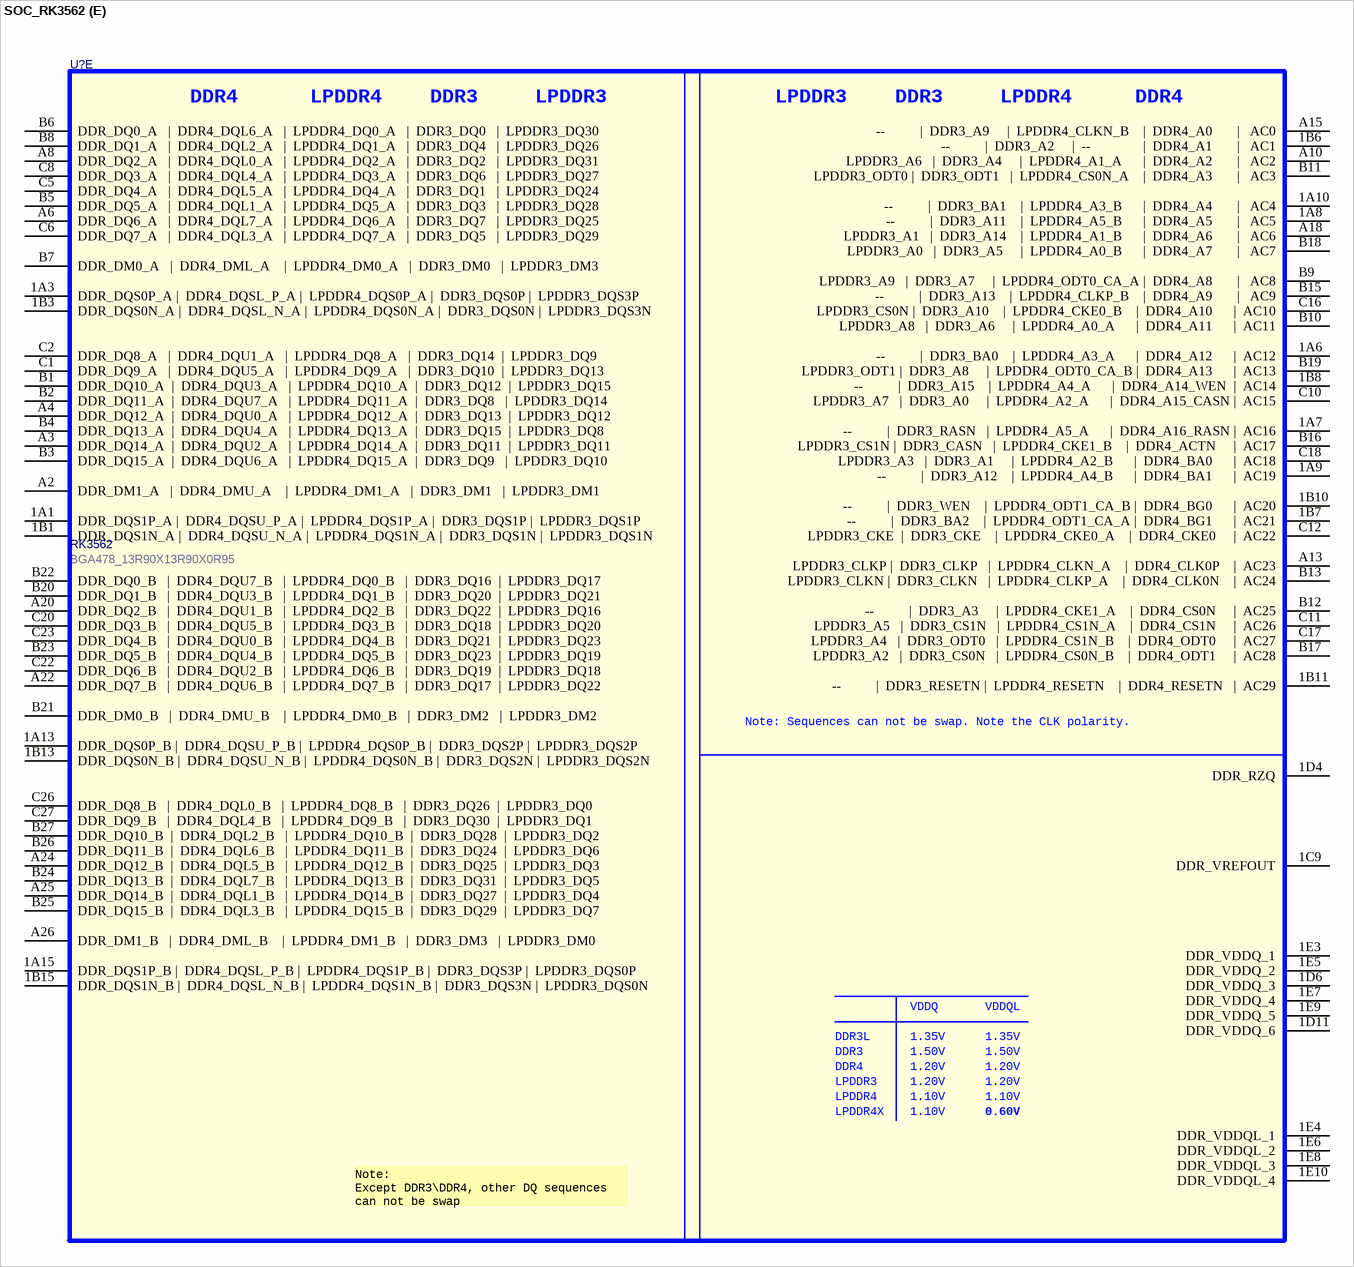
[diagram p15: symbol SOC_RK3562]

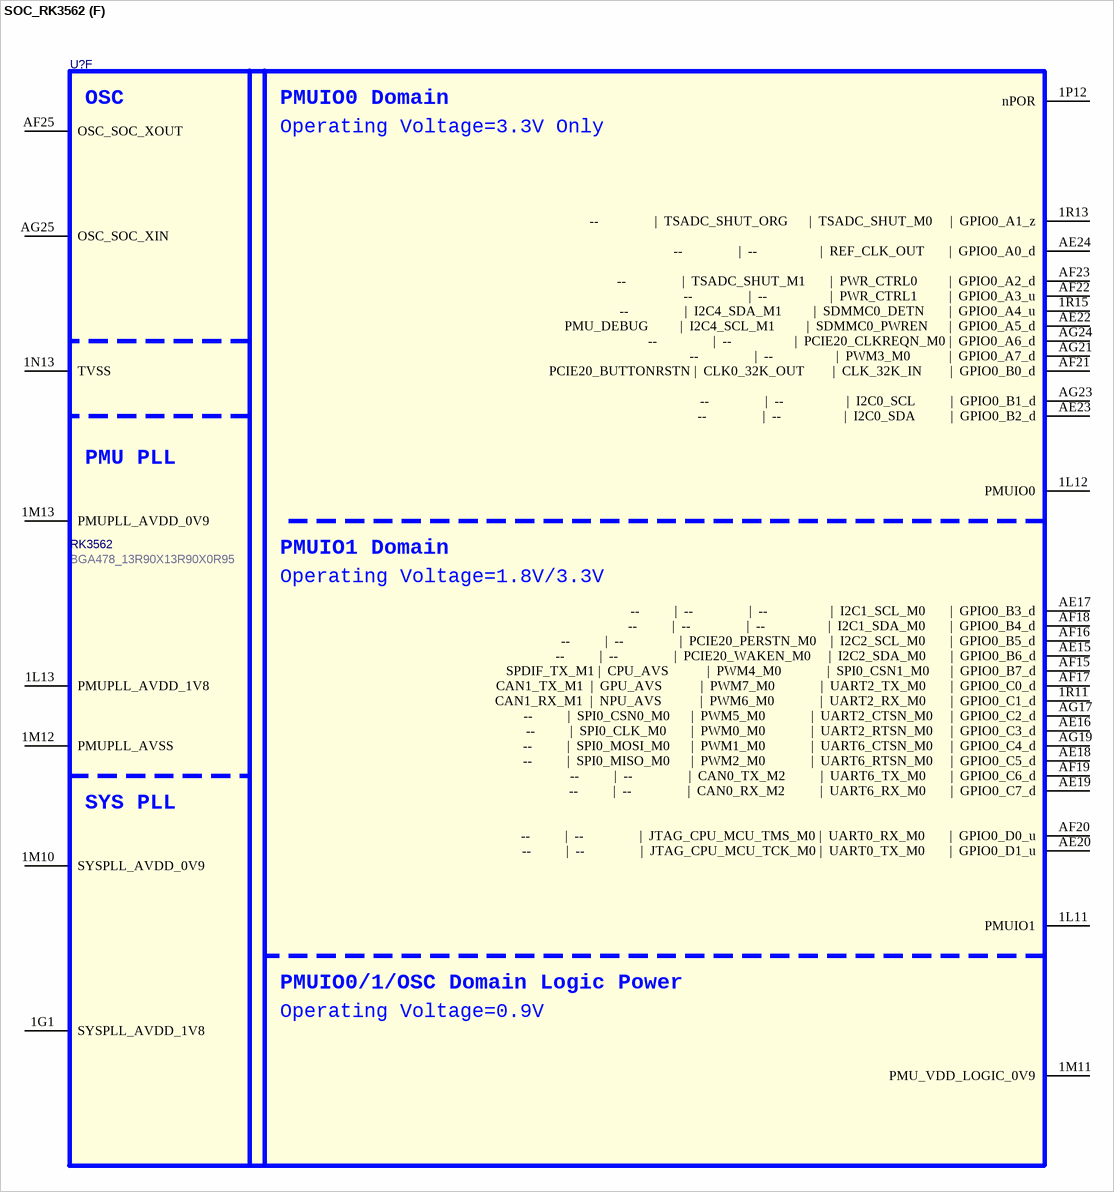
[diagram p16: symbol SOC_RK3562]

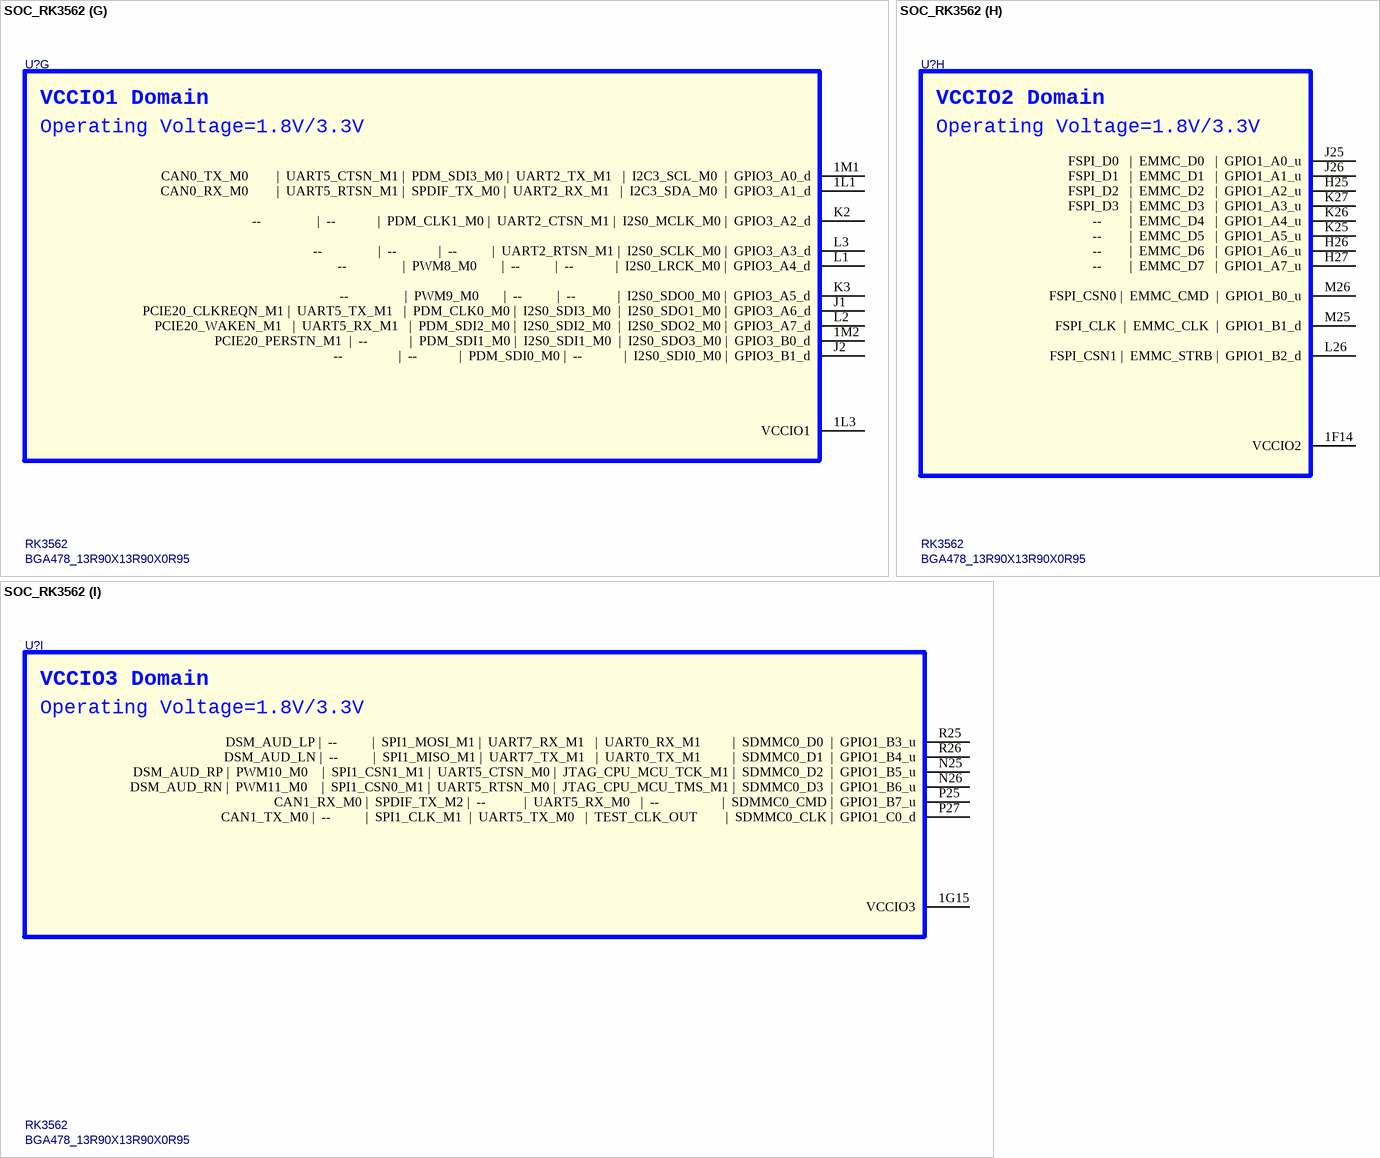
[diagram p17: symbol SOC_RK3562]

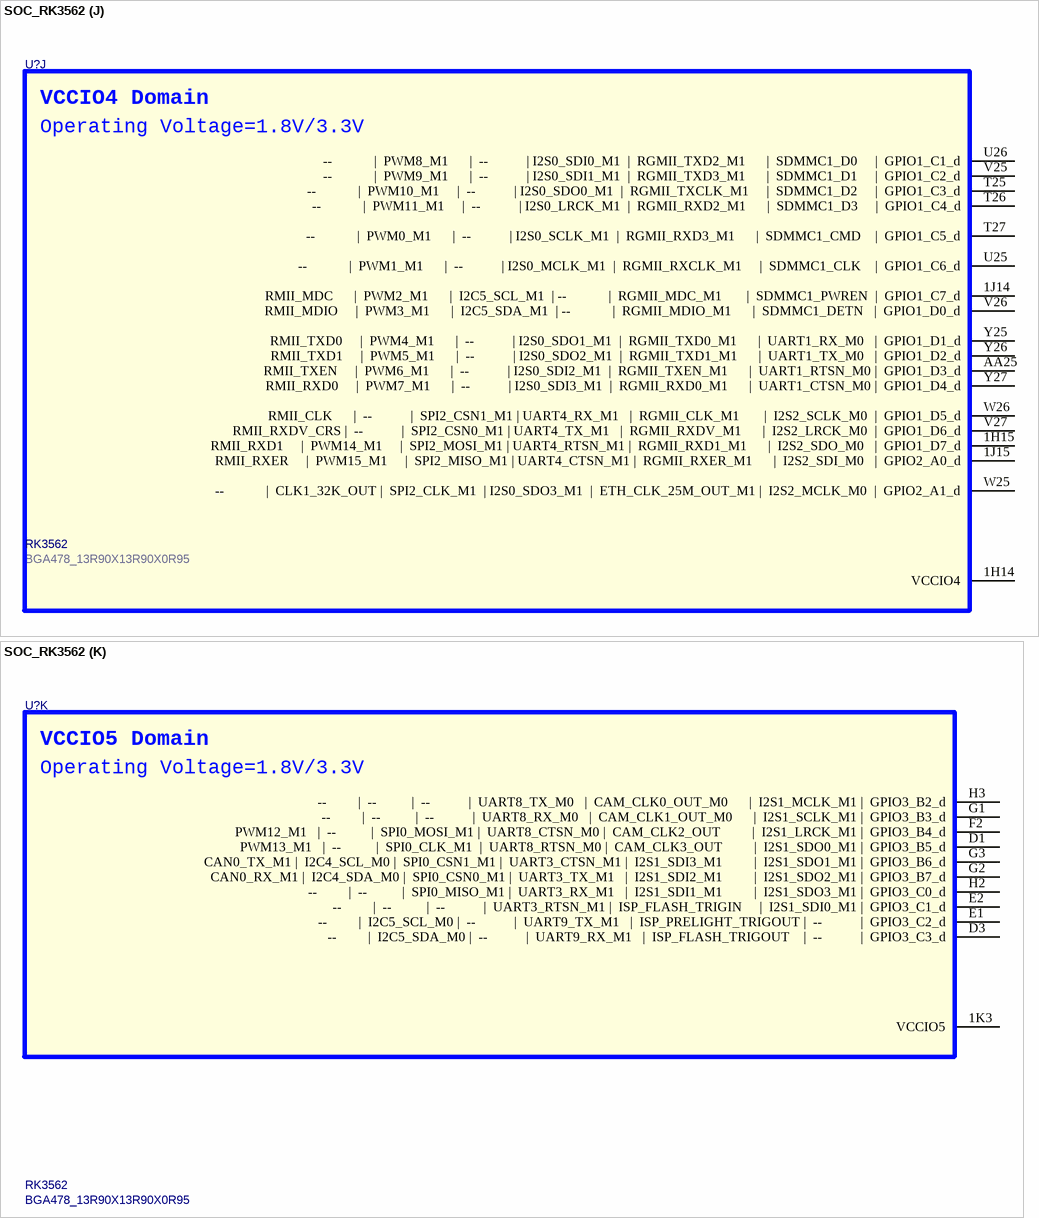
[diagram p18: symbol SOC_RK3562]

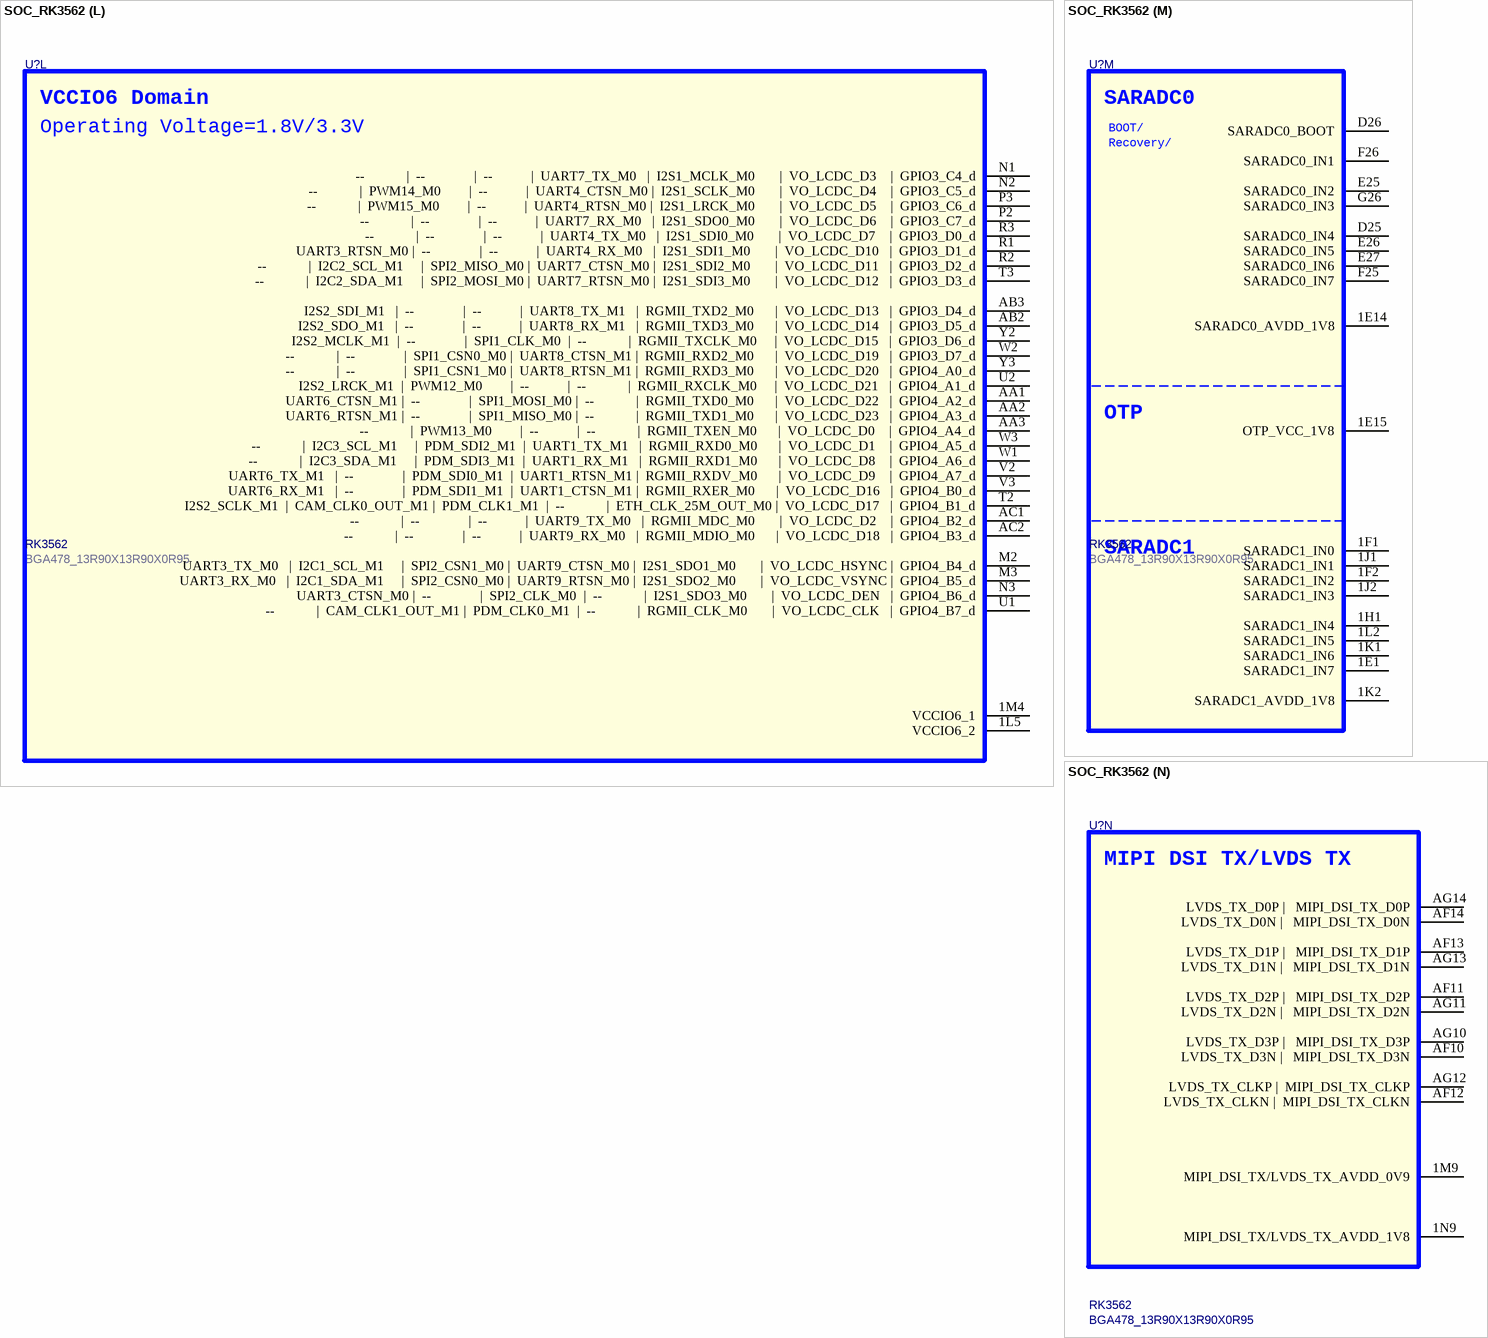
[diagram p19: symbol SOC_RK3562]

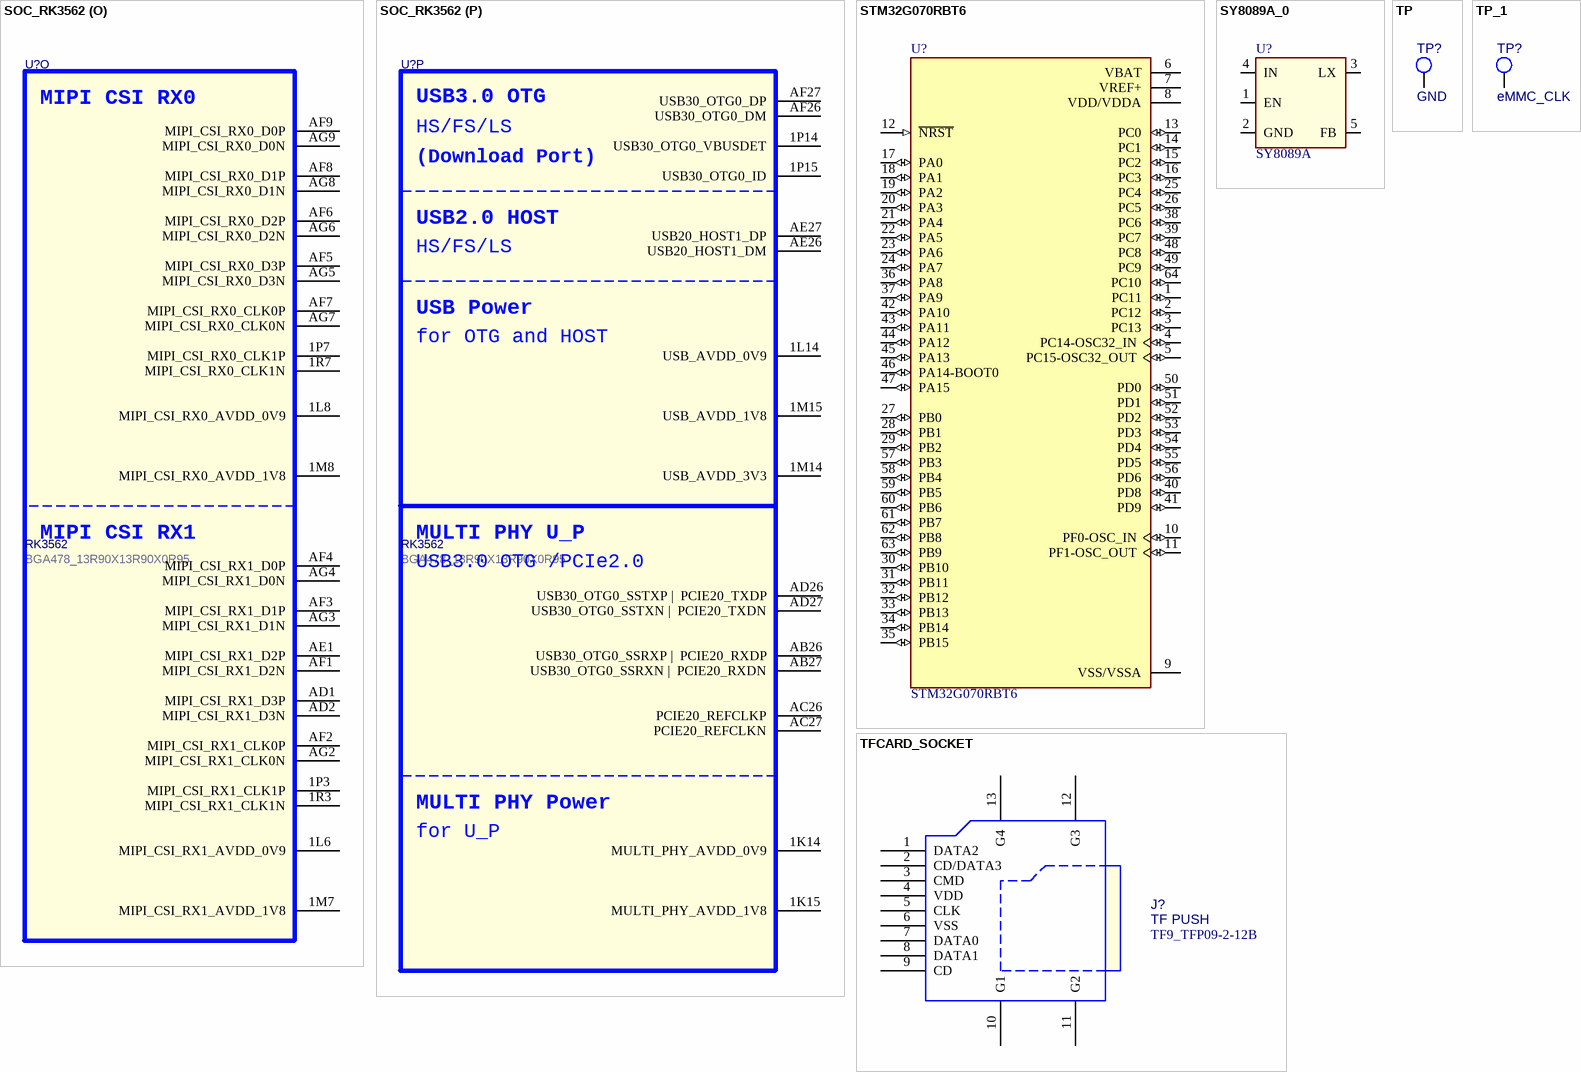
[diagram p20: symbols SOC_RK3562 to TP_1]